# EAGLE library part CAY16-1502F4LF (library RescueRunner)
BOURNS - CAY16-270J4LF - RESISTOR, ARRAY, 27R, 5%, 0.125W Source: Datasheet <http://uk.rs-online.com/web/p/products/7408782>
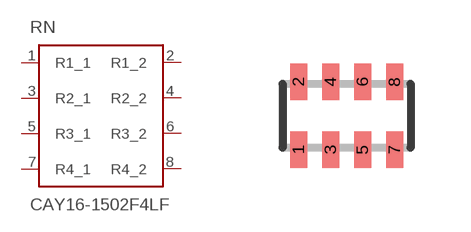
[diagram p18: symbol with the pads of CAY16-J4; footprint CAY16-J4]

Designator prefix RN

## CAY16-1502F4LF (ALLIED_NUMBER: 70276336; DESCRIPTION: BOURNS - CAY16-270J4LF - RESISTOR, ARRAY, 27R, 5%, 0.125W; HEIGHT: mm; MANUFACTURER_NAME: Bourns; MANUFACTURER_PART_NUMBER: CAY16-270J4LF; RS_PART_NUMBER: 7408782; RS_PRICE-STOCK: http://uk.rs-online.com/web/p/products/7408782)  [CAY16-J4]
1  R1_1
2  R1_2
3  R2_1
4  R2_2
5  R3_1
6  R3_2
7  R4_1
8  R4_2

## Footprint CAY16-J4 (pad centres in mm)
CAY16-J4
smd 0.425 x 0.9: 1 -1.2,-0.85; 2 -1.2,0.85; 3 -0.4,-0.85; 4 -0.4,0.85; 5 0.4,-0.85; 6 0.4,0.85; 7 1.2,-0.85; 8 1.2,0.85